# EAGLE library part AD5246 (library Mikes-Stuff)
5K digital potentiometer no I2C selectable address pins
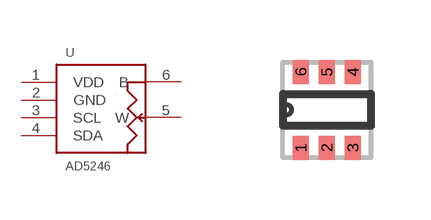
[diagram p8: symbol with the pads of TSSOT6; footprint TSSOT6]

Designator prefix -

## AD5246TSSOT6  [TSSOT6]
1  VDD
2  GND
3  SCL
4  SDA
5  W
6  B

## Footprint TSSOT6 (pad centres in mm)
smd 0.4 x 0.6: 1 -0.65,-0.95; 2 0,-0.95; 3 0.65,-0.95; 4 0.65,0.95; 5 0,0.95; 6 -0.65,0.95